# Altium footprint library Pulser Driver4,2.PcbLib: 46 footprints (part 3 of 3)
Each footprint in its own frame and in the unit in brackets; x right, y up, seen from the top. Pads: shape width x height; smd on the part's side, far side on the other; paste and mask are expansions set on the pad; w line width, h text height; cw(c..) or ccw(c..) is an arc to the next point about the centre after c.
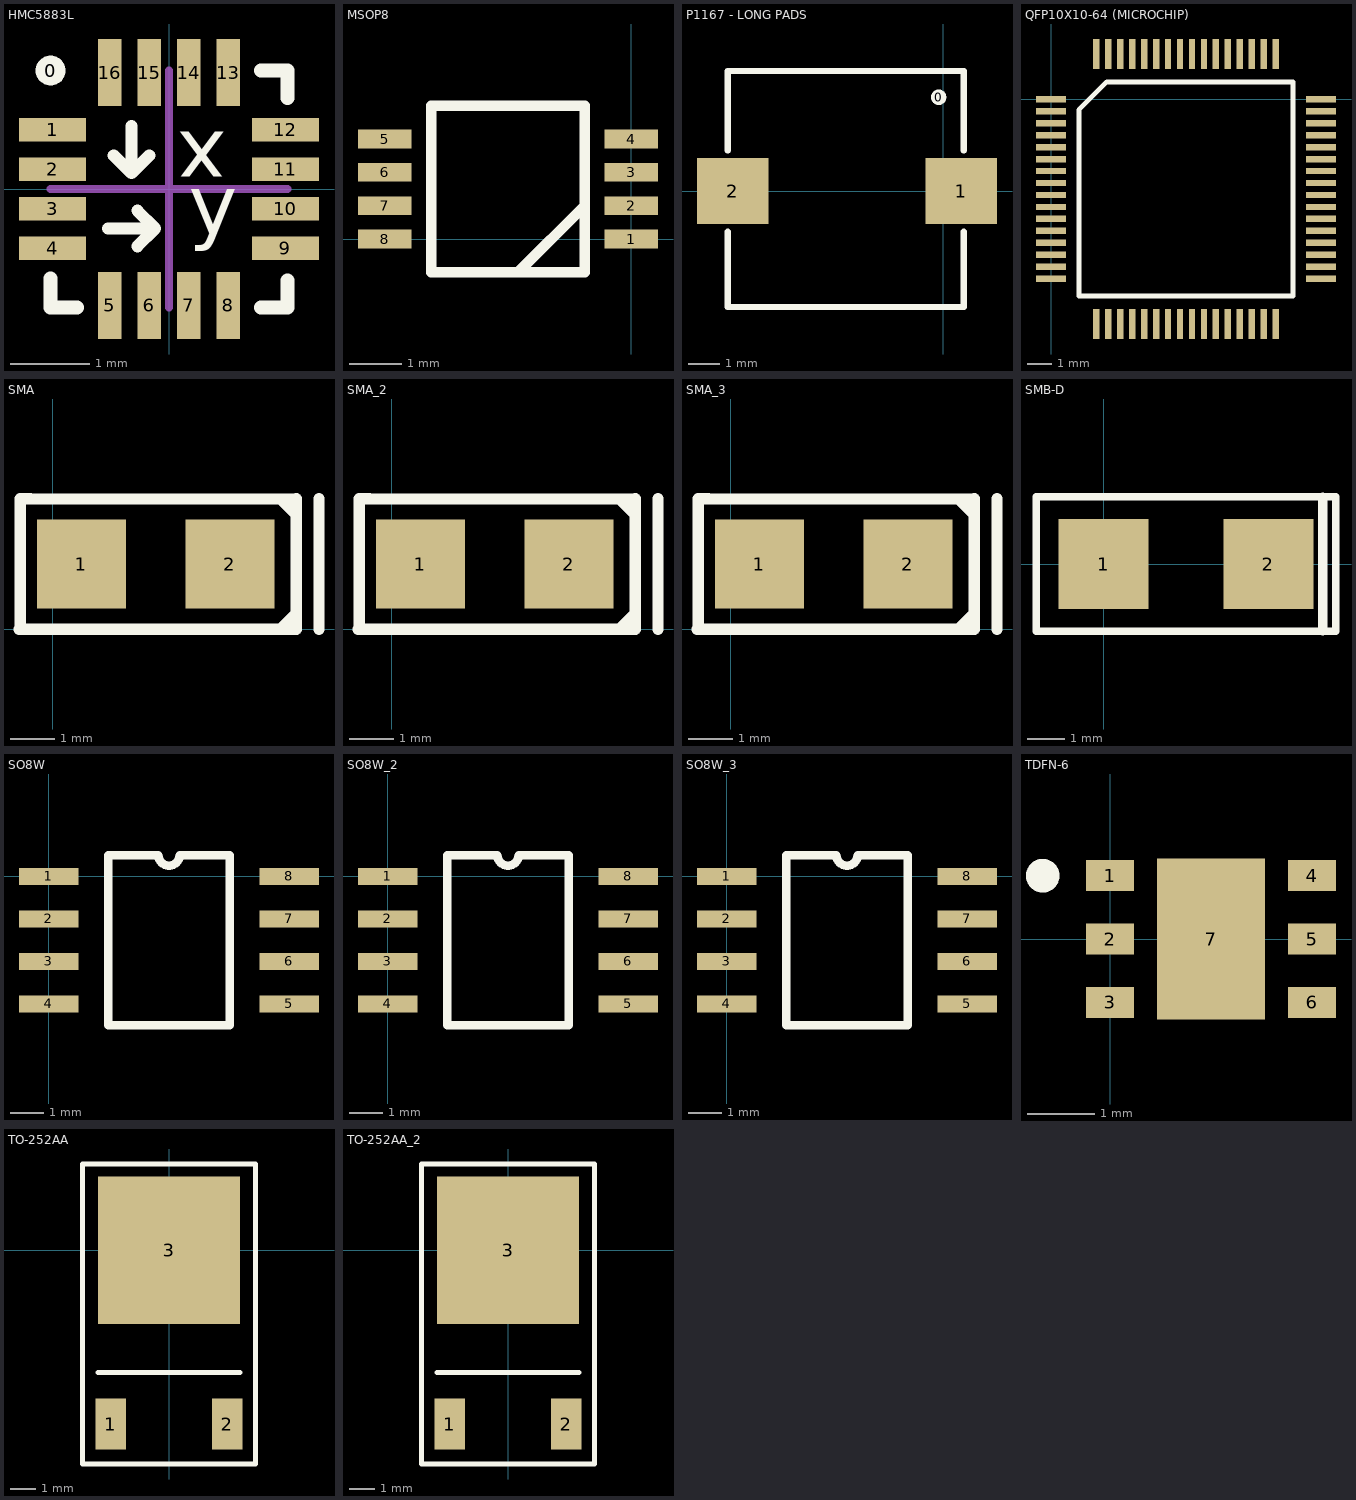
[diagram p2: the footprints below, top view; thin cyan lines are the x and y axes]

## HMC5883L [mm] "HMC5883L 3-Axis Magnetometer"
height 0.9
pads (17):
  round 0.381 on Top Overlay: 0(-1.5,1.5)
  rect 0.85x0.3 smd: 1(-1.475,0.75) 2(-1.475,0.25) 3(-1.475,-0.25) 4(-1.475,-0.75) 9(1.475,-0.75) 10(1.475,-0.25) 11(1.475,0.25) 12(1.475,0.75)
  rect 0.3x0.85 smd: 5(-0.75,-1.475) 6(-0.25,-1.475) 7(0.25,-1.475) 8(0.75,-1.475) 13(0.75,1.475) 14(0.25,1.475) 15(-0.25,1.475) 16(-0.75,1.475)
Top Overlay:
  lines w0.152: -0.775,-0.5 -0.175,-0.5 ; -0.7,0.425 -0.475,0.2 ; -0.475,0.8 -0.475,0.2 ; -0.4,-0.725 -0.175,-0.5 ; -0.4,-0.275 -0.175,-0.5 ; -0.25,0.425 -0.475,0.2
  lines w0.178: -1.5,-1.131 -1.5,-1.5 -1.165,-1.5 ; 1.165,-1.5 1.5,-1.5 1.5,-1.159 ; 1.165,1.5 1.5,1.5 1.5,1.155
  text "y" at 0.25,-0.575 h0.76
  text "x" at 0.725,0.725 h0.76
  text "." at 0,0.05 h0.76
Mechanical 1:
  lines w0.1: -1.5,0 1.5,0 ; 0,-1.5 0,1.5

## MSOP8 [mil]
pads (8):
  rect 40x14 smd: 1(0,0) 2(0,25) 3(0,50) 4(0,75) 5(-185,75) 6(-185,50) 7(-185,25) 8(-185,0)
Top Overlay:
  lines w8: -85,-25 -35,25 ; -150,-25 -35,-25 -35,100 -150,100 -150,-25

## P1167 - LONG PADS [mm]
pads (3):
  round 0.5 on Top Overlay: 0(-0.145,3)
  rect 2.29x2.11 smd: 1(0.573,0) 2(-6.717,0)
Top Overlay:
  lines w0.203: -6.885,-1.3 -6.885,-3.7 0.655,-3.7 0.655,-1.3 ; -6.885,1.3 -6.885,3.84 0.655,3.84 0.655,1.3

## QFP10X10-64 (MICROCHIP) [mm]
pads (64):
  rect 1.254x0.27 smd: 1(0,0) 2(0,-0.5) 3(0,-1) 4(0,-1.5) 5(0,-2) 6(0,-2.5) 7(0,-3) 8(0,-3.5) 9(0,-4) 10(0,-4.5) 11(0,-5) 12(0,-5.5) 13(0,-6) 14(0,-6.5) 15(0,-7) 16(0,-7.5) 33(11.254,-7.5) 34(11.254,-7) 35(11.254,-6.5) 36(11.254,-6) 37(11.254,-5.5) 38(11.254,-5) 39(11.254,-4.5) 40(11.254,-4) 41(11.254,-3.5) 42(11.254,-3) 43(11.254,-2.5) 44(11.254,-2) 45(11.254,-1.5) 46(11.254,-1) 47(11.254,-0.5) 48(11.254,0)
  rect 0.27x1.254 smd: 17(1.877,-9.377) 18(2.377,-9.377) 19(2.877,-9.377) 20(3.377,-9.377) 21(3.877,-9.377) 22(4.377,-9.377) 23(4.877,-9.377) 24(5.377,-9.377) 25(5.877,-9.377) 26(6.377,-9.377) 27(6.877,-9.377) 28(7.377,-9.377) 29(7.877,-9.377) 30(8.377,-9.377) 31(8.877,-9.377) 32(9.377,-9.377) 49(9.377,1.877) 50(8.877,1.877) 51(8.377,1.877) 52(7.877,1.877) 53(7.377,1.877) 54(6.877,1.877) 55(6.377,1.877) 56(5.877,1.877) 57(5.377,1.877) 58(4.877,1.877) 59(4.377,1.877) 60(3.877,1.877) 61(3.377,1.877) 62(2.877,1.877) 63(2.377,1.877) 64(1.877,1.877)
Top Overlay:
  lines w0.2: 1.162,-8.215 10.092,-8.215 10.092,0.715 2.324,0.715 1.162,-0.447 1.162,-8.215

## SMA [mm]
height 1.45
pads (2):
  rect 2x2 smd: 1(0.64,1.46) 2(3.97,1.46)
Top Overlay:
  lines w0.254: 4.877,2.92 4.979,2.92 ; 4.928,0 4.953,0 ; 5.105,0 5.436,0.33 ; 5.105,2.92 5.409,2.616 ; 5.46,0 4.6,0 0,0 -0.762,0 -0.737,0.025 -0.737,2.921 -0.51,2.921 -0.509,2.92 0,2.92 4.6,2.92 5.46,2.92 ; 5.46,0.001 5.46,2.921 ; 5.969,0 5.969,2.921

## SMA_2 [mm]
pads (2):
  rect 2x2 smd: 1(0.64,1.46) 2(3.97,1.46)
Top Overlay:
  lines w0.254: 4.877,2.92 4.979,2.92 ; 4.928,0 4.953,0 ; 5.105,0 5.436,0.33 ; 5.105,2.92 5.409,2.616 ; 5.46,0 4.6,0 0,0 -0.762,0 -0.737,0.025 -0.737,2.921 -0.51,2.921 -0.509,2.92 0,2.92 4.6,2.92 5.46,2.92 ; 5.46,0.001 5.46,2.921 ; 5.969,0 5.969,2.921

## SMA_3 [mm]
pads (2):
  rect 2x2 smd: 1(0.64,1.46) 2(3.97,1.46)
Top Overlay:
  lines w0.254: 4.877,2.92 4.979,2.92 ; 4.928,0 4.953,0 ; 5.105,0 5.436,0.33 ; 5.105,2.92 5.409,2.616 ; 5.46,0 4.6,0 0,0 -0.762,0 -0.737,0.025 -0.737,2.921 -0.51,2.921 -0.509,2.92 0,2.92 4.6,2.92 5.46,2.92 ; 5.46,0.001 5.46,2.921 ; 5.969,0 5.969,2.921

## SMB-D [mm]
pads (2):
  rect 2.4x2.4 smd: 1(0,0) 2(4.4,0)
Top Overlay:
  lines w0.2: -1.8,-1.8 6.2,-1.8 6.2,1.8 -1.8,1.8 -1.8,-1.8
  lines w0.254: 5.842,-1.778 5.842,1.778

## SO8W [mil]
pads (8):
  rect 70x20 smd: 1(0,0) 2(0,-50) 3(0,-100) 4(0,-150) 5(283,-150) 6(283,-100) 7(283,-50) 8(283,0)
Top Overlay:
  lines w10: 70,-175 70,25 129,25 ccw(c141.5,25) 154,25 213,25 213,-175 70,-175

## SO8W_2 [mil]
pads (8):
  rect 70x20 smd: 1(0,0) 2(0,-50) 3(0,-100) 4(0,-150) 5(283,-150) 6(283,-100) 7(283,-50) 8(283,0)
Top Overlay:
  lines w10: 70,-175 70,25 129,25 ccw(c141.5,25) 154,25 213,25 213,-175 70,-175

## SO8W_3 [mil]
pads (8):
  rect 70x20 smd: 1(0,0) 2(0,-50) 3(0,-100) 4(0,-150) 5(283,-150) 6(283,-100) 7(283,-50) 8(283,0)
Top Overlay:
  lines w10: 70,-175 70,25 129,25 ccw(c141.5,25) 154,25 213,25 213,-175 70,-175

## TDFN-6 [mm] "Maxim 1-Wire TDFN 6-Pin 3mm x 3mm"
height 0.8
pads (7):
  rect 0.71x0.46 smd: 1(0,0.94) 2(0,0) 3(0,-0.94) 4(3,0.94) 5(3,0) 6(3,-0.94)
  rect 1.6x2.39 smd: 7(1.5,0)
Top Overlay:
  circle w0.3: c-1,0.94 r0.1

## TO-252AA [mm] "TO-252AA (DPAK)"
pads (3):
  rect 1.2x2 smd: 1(-2.29,-6.83) 2(2.29,-6.83)
  rect 5.6x5.8 smd: 3(0,0)
Top Overlay:
  lines w0.2: -2.8,-4.8 2.8,-4.8 ; -3.4,-8.4 3.4,-8.4 3.4,3.4 -3.4,3.4 -3.4,-8.4

## TO-252AA_2 [mm]
pads (3):
  rect 1.2x2 smd: 1(-2.29,-6.83) 2(2.29,-6.83)
  rect 5.6x5.8 smd: 3(0,0)
Top Overlay:
  lines w0.2: -2.8,-4.8 2.8,-4.8 ; -3.4,-8.4 3.4,-8.4 3.4,3.4 -3.4,3.4 -3.4,-8.4